# Altium footprint library WE-KI HC.PcbLib: 2 footprints
Each footprint in its own frame and in the unit in brackets; x right, y up, seen from the top. Pads: shape width x height; smd on the part's side, far side on the other; paste and mask are expansions set on the pad; w line width, h text height; cw(c..) or ccw(c..) is an arc to the next point about the centre after c.
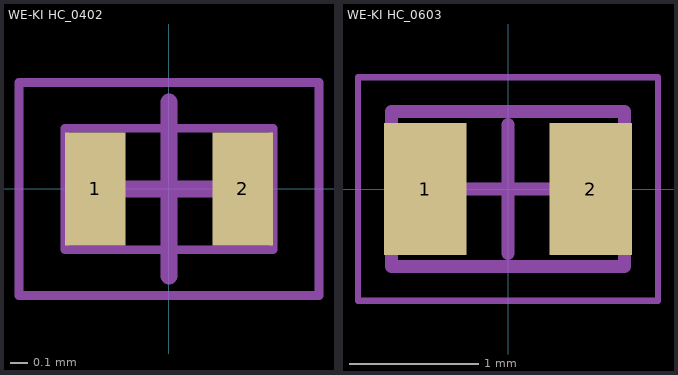
[diagram p0: the footprints below, top view; thin cyan lines are the x and y axes]

## WE-KI HC_0402 [mm] "SMD Inductor, body 1.10x0.60mm"
height 0.7
pads (2):
  rect 0.35x0.65 smd: 1(-0.425,0) 2(0.425,0)
Top Assembly:
  lines w0.05: -0.6,-0.35 -0.6,0.35 0.6,0.35 0.6,-0.35 -0.6,-0.35
Top Designator:
  text ".Designator" at -3.647,-0.357 h1
Top Courtyard:
  lines w0.05: -0.864,-0.613 0.864,-0.613 0.864,0.613 -0.864,0.613 -0.864,-0.613
Top Component Center:
  lines w0.1: -0.5,0 0.5,0 ; 0,-0.5 0,0.5
3D body "744916xxx.stp": height 0.57, standoff 0, extent -0.55,-0.3 0.55,0.3

## WE-KI HC_0603 [mm] "SMD Inductor, body 1.70x1.10mm"
height 1.1
pads (2):
  rect 0.64x1.02 smd: 1(-0.64,0) 2(0.64,0)
Top Assembly:
  lines w0.1: -0.9,-0.6 0.9,-0.6 0.9,0.6 -0.9,0.6 -0.9,-0.6
Top Designator:
  text ".Designator" at -3.647,-0.357 h1
Top Courtyard:
  lines w0.05: -1.16,-0.864 1.16,-0.864 1.16,0.864 -1.16,0.864 -1.16,-0.864
Top Component Center:
  lines w0.1: -0.5,0 0.5,0 ; 0,-0.5 0,0.5
3D body "0603_744917xxx.stp": height 0.8, standoff 0, extent -0.8,-0.42 0.8,0.42